# Altium footprint library T491C106K035AT.PcbLib: 1 footprints
Each footprint in its own frame and in the unit in brackets; x right, y up, seen from the top. Pads: shape width x height; smd on the part's side, far side on the other; paste and mask are expansions set on the pad; w line width, h text height; cw(c..) or ccw(c..) is an arc to the next point about the centre after c.
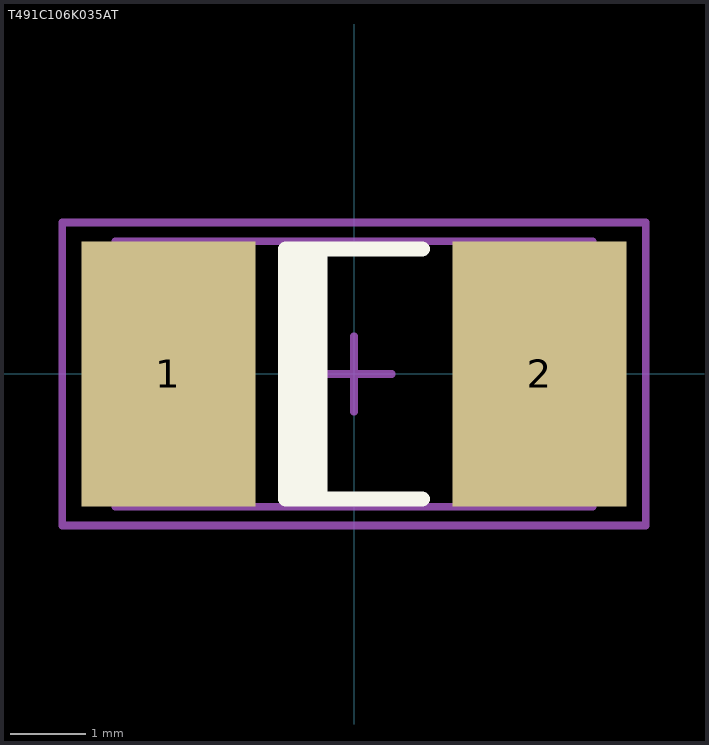
[diagram p0: the footprint, top view; thin cyan lines are the x and y axes]

## T491C106K035AT [mm] "KEMET - T491C106K035AT - CAPACITOR, CASE C, 10UF, 35V"
height 2.8
pads (2):
  rect 2.3x3.5 smd: 1(-2.45,0) 2(2.45,0)
Top Overlay:
  rectangle: -0.9,-1.65 -0.35,1.65
  lines w0.2: 0.9,-1.65 -0.9,-1.65 -0.9,1.65 0.9,1.65
Mechanical 13:
  lines w0.1: -3.15,-1.75 3.15,-1.75 3.15,1.75 -3.15,1.75 -3.15,-1.75
Mechanical 15:
  lines w0.1: -0.5,0 0.5,0 ; 0,-0.5 0,0.5 ; -3.85,-2 3.85,-2 3.85,2 -3.85,2 -3.85,-2
3D body: height 2.8, standoff 0, extent -3.15,-1.75 3.15,1.75